# EAGLE library part FPC-1.0X30 (library pimoroni-connectors)
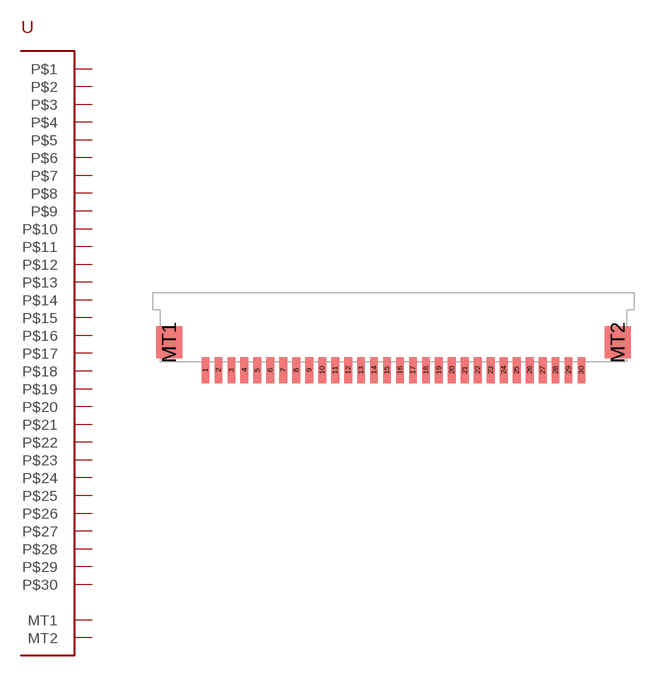
[diagram p5: symbol with the pads of FPC_1.0X30; footprint FPC_1.0X30]

Designator prefix -

## FPC-1.0X30  [FPC_1.0X30]
1  P$1
2  P$2
3  P$3
4  P$4
5  P$5
6  P$6
7  P$7
8  P$8
9  P$9
10  P$10
11  P$11
12  P$12
13  P$13
14  P$14
15  P$15
16  P$16
17  P$17
18  P$18
19  P$19
20  P$20
21  P$21
22  P$22
23  P$23
24  P$24
25  P$25
26  P$26
27  P$27
28  P$28
29  P$29
30  P$30
MT1  MT1
MT2  MT2

## Footprint FPC_1.0X30 (pad centres in mm)
smd 0.6 x 2: 1 -14.5,-0.65; 2 -13.5,-0.65; 3 -12.5,-0.65; 4 -11.5,-0.65; 5 -10.5,-0.65; 6 -9.5,-0.65; 7 -8.5,-0.65; 8 -7.5,-0.65; 9 -6.5,-0.65; 10 -5.5,-0.65; 11 -4.5,-0.65; 12 -3.5,-0.65; 13 -2.5,-0.65; 14 -1.5,-0.65; 15 -0.5,-0.65; 16 0.5,-0.65; 17 1.5,-0.65; 18 2.5,-0.65; 19 3.5,-0.65; 20 4.5,-0.65; 21 5.5,-0.65; 22 6.5,-0.65; 23 7.5,-0.65; 24 8.5,-0.65; 25 9.5,-0.65; 26 10.5,-0.65; 27 11.5,-0.65; 28 12.5,-0.65; 29 13.5,-0.65; 30 14.5,-0.65
smd 2 x 2.5: MT1 -17.3,1.5; MT2 17.3,1.5